# Altium footprint library PcbLib1.PcbLib: 7 footprints
Each footprint in its own frame and in the unit in brackets; x right, y up, seen from the top. Pads: shape width x height; smd on the part's side, far side on the other; paste and mask are expansions set on the pad; w line width, h text height; cw(c..) or ccw(c..) is an arc to the next point about the centre after c.
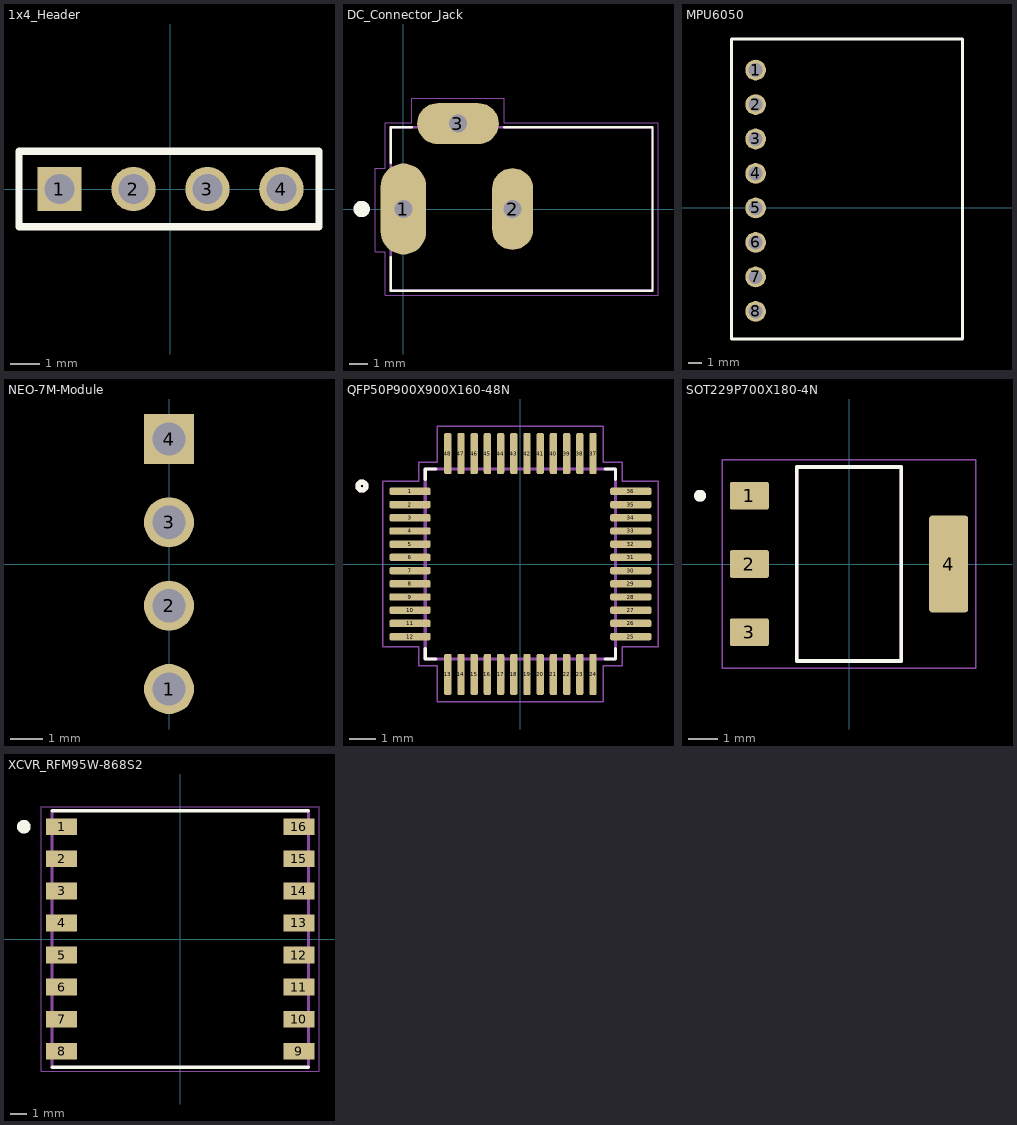
[diagram p0: the footprints below, top view; thin cyan lines are the x and y axes]

## 1x4_Header [mil]
pads (4):
  rect 60x60 hole 40.16: 1(-150,0)
  round 60 hole 40.16: 2(-50,0) 3(50,0) 4(150,0)
Top Overlay:
  lines w10: -204.72,-51.18 -204.72,51.18 200.79,51.18 200.79,-51.18 -204.72,-51.18
3D body "1x4 Header.STEP": height 342.52, standoff -122.05, extent -200,-47.24 200,51.18

## DC_Connector_Jack [mm]
pads (3):
  oval 2.5x5 hole 1 square: 1(0,0)
  oval 2.25x4.5 hole 1 square: 2(6,0)
  oval 4.5x2.25 hole 1 square: 3(3,4.7)
Top Overlay:
  circle w0.5: c-2.3,0 r0.2
  lines w0.127: -0.7,-2.65 -0.7,-4.5 13.7,-4.5 13.7,4.5 5.55,4.5 ; -0.7,2.55 -0.7,4.5 0.45,4.5
Mechanical 13:
  lines w0.127: -0.7,-4.5 13.7,-4.5 13.7,4.5 -0.7,4.5 -0.7,-4.5
Mechanical 15:
  lines w0.05: -1.55,-2.35 -1.55,2.25 -1,2.25 -1,4.75 0.45,4.75 0.45,6.1 5.55,6.1 5.55,4.75 14,4.75 14,-4.75 -1,-4.75 -1,-2.35 -1.55,-2.35
3D body "DC Connector Jack.step": height 11.2, standoff -3.29, extent -0.7,-4.7 13.7,4.7

## MPU6050 [mil]
pads (8):
  round 60 hole 40.16: 1(300,400) 2(300,300) 3(300,200) 4(300,100) 5(300,0) 6(300,-100) 7(300,-200) 8(300,-300)
Top Overlay:
  lines w10: 230,-380 230,490 900,490 900,-380 230,-380
3D body "MPU 6050 IMU.STEP": height 143.42, standoff -296.58, extent 250,-361 875,470

## NEO-7M-Module [mil]
pads (4):
  round 60 hole 40.16: 1(0,-150) 2(0,-50) 3(0,50)
  rect 60x60 hole 40.16: 4(0,150)
3D body "GPS.stp": height 159.84, standoff 0, extent -62.99,-501.18 1338.58,525.59
3D body "1x4 Header.STEP": height 287.4, standoff -177.17, extent -51.18,-204.72 47.24,195.28

## QFP50P900X900X160-48N [mm]
pads (48):
  rrect50% 1.56x0.28 smd: 1(-4.18,2.75) 2(-4.18,2.25) 3(-4.18,1.75) 4(-4.18,1.25) 5(-4.18,0.75) 6(-4.18,0.25) 7(-4.18,-0.25) 8(-4.18,-0.75) 9(-4.18,-1.25) 10(-4.18,-1.75) 11(-4.18,-2.25) 12(-4.18,-2.75) 25(4.18,-2.75) 26(4.18,-2.25) 27(4.18,-1.75) 28(4.18,-1.25) 29(4.18,-0.75) 30(4.18,-0.25) 31(4.18,0.25) 32(4.18,0.75) 33(4.18,1.25) 34(4.18,1.75) 35(4.18,2.25) 36(4.18,2.75)
  rrect50% 0.28x1.56 smd: 13(-2.75,-4.18) 14(-2.25,-4.18) 15(-1.75,-4.18) 16(-1.25,-4.18) 17(-0.75,-4.18) 18(-0.25,-4.18) 19(0.25,-4.18) 20(0.75,-4.18) 21(1.25,-4.18) 22(1.75,-4.18) 23(2.25,-4.18) 24(2.75,-4.18) 37(2.75,4.18) 38(2.25,4.18) 39(1.75,4.18) 40(1.25,4.18) 41(0.75,4.18) 42(0.25,4.18) 43(-0.25,4.18) 44(-0.75,4.18) 45(-1.25,4.18) 46(-1.75,4.18) 47(-2.25,4.18) 48(-2.75,4.18)
Top Overlay:
  circle w0.2: c-6,2.95 r0.15
  lines w0.127: -3.6,-3.21 -3.6,-3.6 -3.21,-3.6 ; -3.6,3.21 -3.6,3.6 -3.21,3.6 ; 3.21,-3.6 3.6,-3.6 3.6,-3.21 ; 3.21,3.6 3.6,3.6 3.6,3.21
Mechanical 13:
  circle w0.2: c-6,2.95 r0.15
  lines w0.127: -3.6,-3.6 -3.6,3.6 3.6,3.6 3.6,-3.6 -3.6,-3.6
Mechanical 15:
  lines w0.05: -5.21,-3.14 -5.21,3.14 -3.85,3.14 -3.85,3.85 -3.14,3.85 -3.14,5.21 3.14,5.21 3.14,3.85 3.85,3.85 3.85,3.14 5.21,3.14 5.21,-3.14 3.85,-3.14 3.85,-3.85 3.14,-3.85 3.14,-5.21 -3.14,-5.21 -3.14,-3.85 -3.85,-3.85 -3.85,-3.14 -5.21,-3.14
3D body "step_temp.STEP": height 1.6, standoff 0, extent -4.5,-4.5 4.5,4.5

## SOT229P700X180-4N [mm]
pads (4):
  rrect15% 1.31x0.93 smd: 1(-3.345,2.29) 2(-3.345,0) 3(-3.345,-2.29)
  rrect15% 1.31x3.24 smd: 4(3.345,0)
Top Overlay:
  circle w0.2: c-5,2.29 r0.1
  lines w0.127: -1.753,-3.253 1.753,-3.253 1.753,3.253 -1.753,3.253 -1.753,-3.253
Mechanical 13:
  circle w0.2: c-5,2.29 r0.1
  lines w0.127: -1.753,-3.253 1.753,-3.253 1.753,3.253 -1.753,3.253 -1.753,-3.253
Mechanical 15:
  lines w0.05: -4.25,-3.502 -4.25,3.502 4.25,3.502 4.25,-3.502 -4.25,-3.502
3D body "step_temp.STEP": height 1.8, standoff 0, extent -3.499,-3.251 3.499,3.251

## XCVR_RFM95W-868S2 [mm]
pads (16):
  rect 1.95x1.05 smd: 1(-7.4,7) 2(-7.4,5) 3(-7.4,3) 4(-7.4,1) 5(-7.4,-1) 6(-7.4,-3) 7(-7.4,-5) 8(-7.4,-7) 9(7.4,-7) 10(7.4,-5) 11(7.4,-3) 12(7.4,-1) 13(7.4,1) 14(7.4,3) 15(7.4,5) 16(7.4,7)
Top Overlay:
  circle w0.25: c-9.75,7 r0.3
  region: -9.5,6.808 -10.011,6.808 -10.011,7.2 -9.5,7.2
  lines w0.2: -8,-8 8,-8 ; -8,8 8,8
Mechanical 13:
  lines w0.2: -8,-8 -8,8 ; 8,-8 8,8
Mechanical 15:
  lines w0.05: -8.65,-8.25 8.65,-8.25 8.65,8.25 -8.65,8.25 -8.65,-8.25
3D body "step_temp.STEP": height 1.8, standoff 0, extent -8,-8 8,8